# Altium integrated library ON Semi Power Amplifier.IntLib: 1 symbol
Pins are listed as number, name and electrical type; pins without a type are passive.

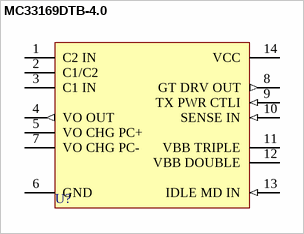
[diagram p0: symbol MC33169DTB-4.0]

## MC33169DTB-4.0
designator U?
GaAs Power Amplifier Support IC; Published: 15-Apr-2002; LatestRevisionDate: 12-Dec-2006; LatestRevisionNote: IPC-7351 Footprint Added.; DatasheetVersion: 1998; PackageVersion: 1998; PackageReference: 948G-01; Publisher: Altium Limited; PackageDescription: 14-Pin Thin Small Outline Package 0.65 mm Pitch; ComponentLink1Description: Manufacturer Link; ComponentLink1URL: http://www.onsemi.com/
footprint 948G-01_N (TSOP, 14-Leads, Body 5x4.4mm, Pitch 0.65mm, IPC Medium Density)
footprint 948G-01_L (TSOP, 14-Leads, Body 5x4.4mm, Pitch 0.65mm, IPC High Density)
footprint 948G-01_M (TSOP, 14-Leads, Body 5x4.4mm, Pitch 0.65mm, IPC Low Density)
pins: 1 C2 IN, 2 C1/C2, 3 C1 IN, 4 VO OUT (out), 5 VO CHG PC+, 6 GND (power), 7 VO CHG PC-, 8 GT DRV OUT (out), 9 TX PWR CTLI (in), 10 SENSE IN (in), 11 VBB TRIPLE, 12 VBB DOUBLE, 13 IDLE MD IN (in), 14 VCC (power)